# Altium footprint library SRP2010TMA.PcbLib: 1 footprints
Each footprint in its own frame and in the unit in brackets; x right, y up, seen from the top. Pads: shape width x height; smd on the part's side, far side on the other; paste and mask are expansions set on the pad; w line width, h text height; cw(c..) or ccw(c..) is an arc to the next point about the centre after c.
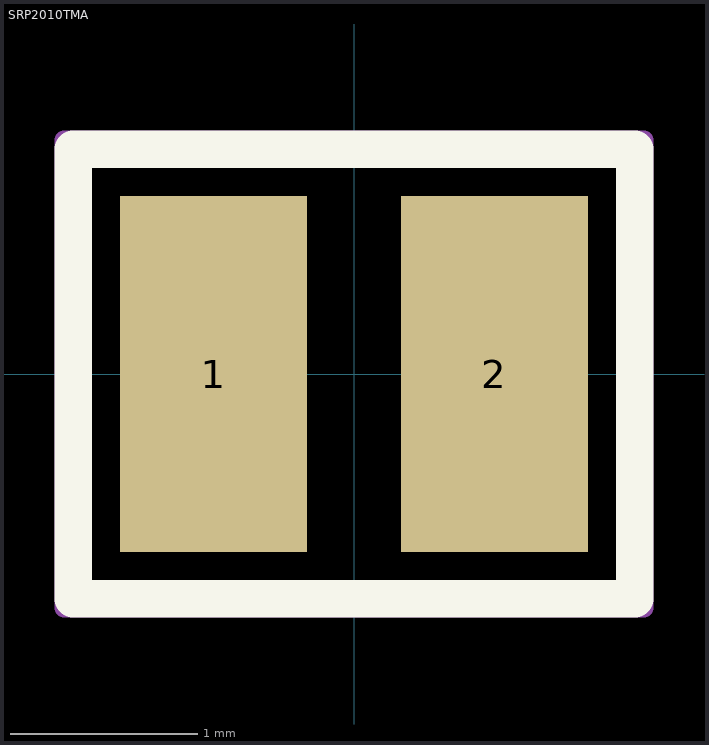
[diagram p0: the footprint, top view; thin cyan lines are the x and y axes]

## SRP2010TMA [mm]
pads (2):
  rect 1x1.9 smd: 1(-0.75,0) 2(0.75,0)
Top Overlay:
  lines w0.2: -1.5,-1.2 -1.5,1.2 1.5,1.2 1.5,-1.2 -1.5,-1.2
Top Courtyard:
  lines w0.1: -1.55,-1.25 1.55,-1.25 1.55,1.25 -1.55,1.25 -1.55,-1.25
3D body "SRP2010TMA.stp": height 0.93, standoff -0.03, extent -1.05,-0.85 1.05,0.85